# Altium schematic symbol library ATA6561-GAQW-N.Schlib: 1 symbol
Pins are listed as number, name and electrical type; pins without a type are passive.

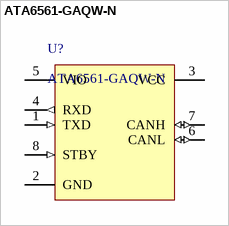
[diagram p0: symbol ATA6561-GAQW-N]

## ATA6561-GAQW-N
designator U?
1/1 Transceiver CANbus 8-SO
pins: 1 TXD (in), 2 GND (power), 3 VCC (power), 4 RXD (out), 5 VIO (power), 6 CANL (io), 7 CANH (io), 8 STBY (in)